# Altium footprint library ControlCircuit_PCB_Library_V1_0.PcbLib: 207 footprints (part 3 of 13)
Each footprint in its own frame and in the unit in brackets; x right, y up, seen from the top. Pads: shape width x height; smd on the part's side, far side on the other; paste and mask are expansions set on the pad; w line width, h text height; cw(c..) or ccw(c..) is an arc to the next point about the centre after c.
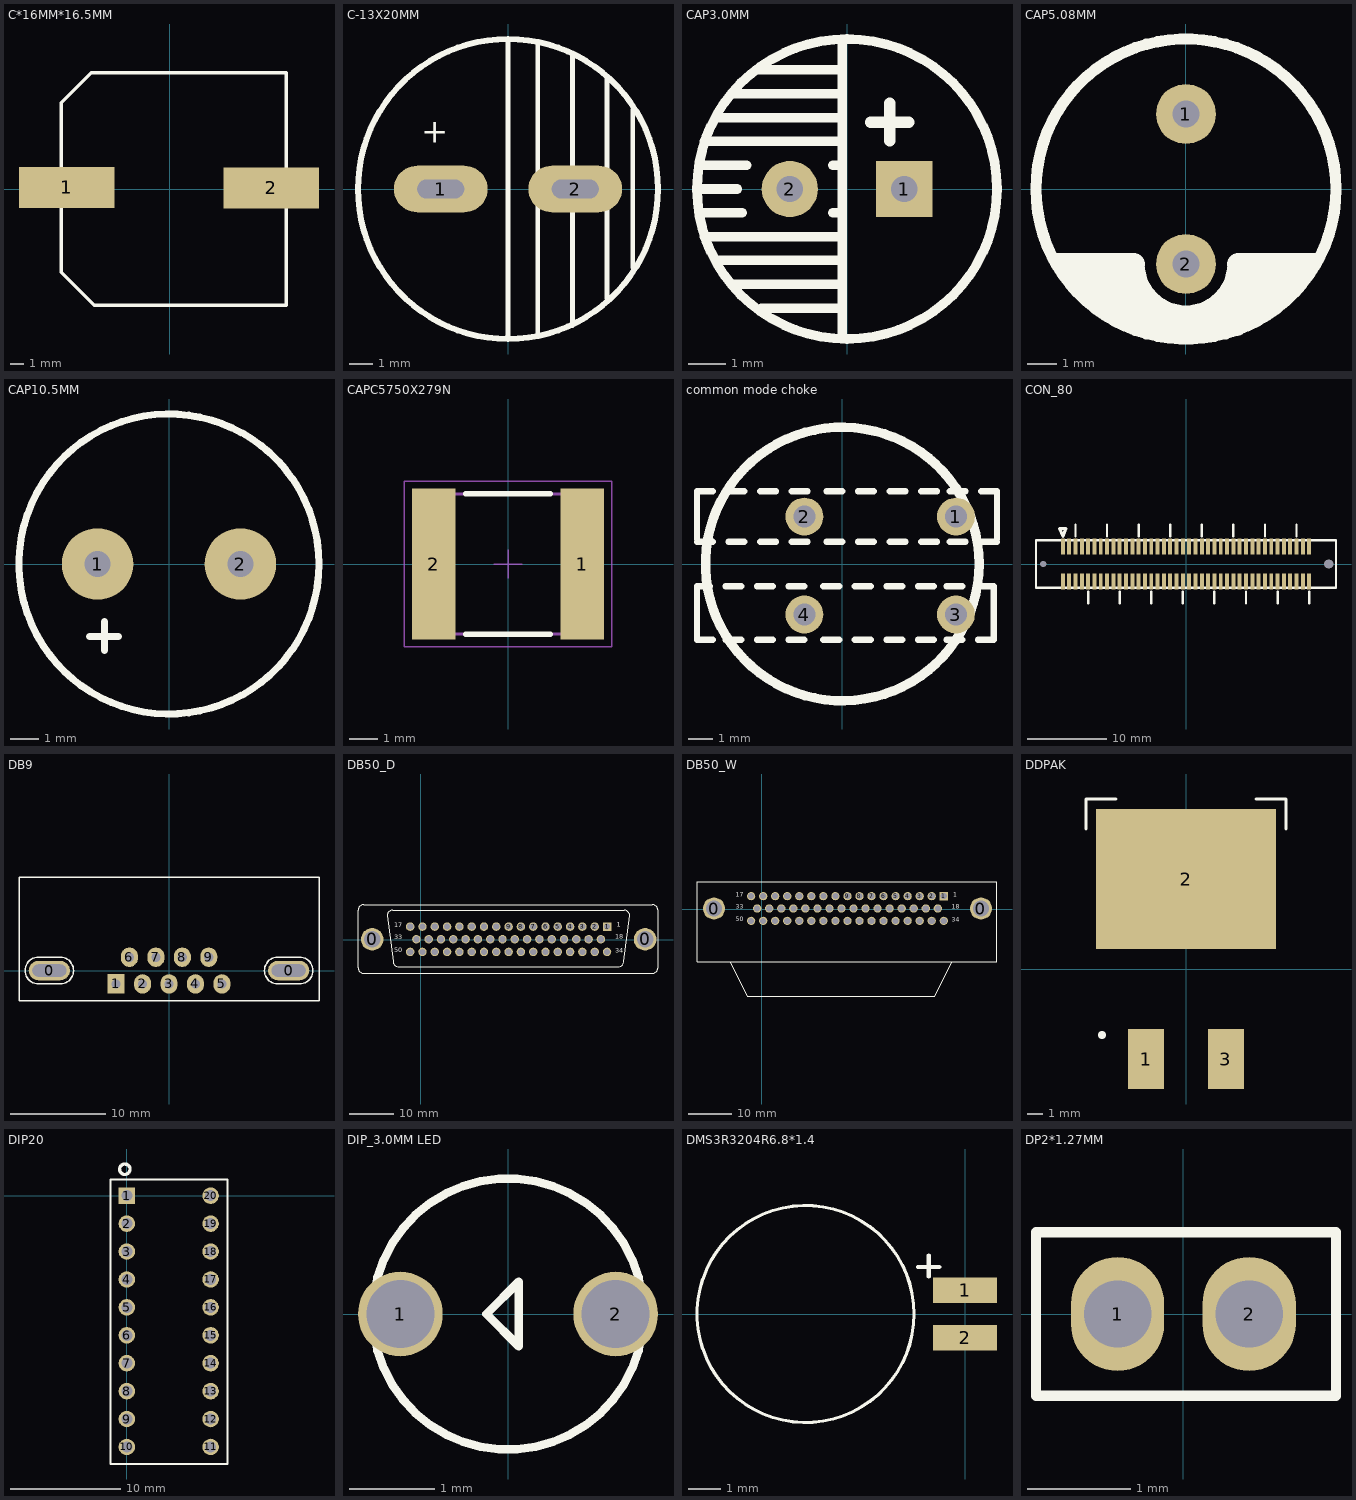
[diagram p2: the footprints below, top view; thin cyan lines are the x and y axes]

## C*16MM*16.5MM [mm]
height 10.2
pads (2):
  rect 7x3 smd: 1(-7.518,0.127) 2(7.417,0.102)
Top Overlay:
  lines w0.254: -7.925,-6.071 -7.925,6.325 -5.74,8.509 8.509,8.509 8.509,-8.484 -5.512,-8.484 -7.925,-6.071

## C-13X20MM [mm]
pads (2):
  oval 4x2 hole 0.8 slot 2 at 0 deg: 1(-2.87,0) 2(2.87,0)
Top Overlay:
  circle w0.254: c0,0 r6.4
  lines w0.2: -0.05,-6.325 0,-6.325 0,6.3 ; 1.275,-6.175 1.275,6.25 ; 2.75,-5.825 2.75,5.8 ; 4.225,4.725 4.225,-4.675 4.25,-4.7 ; 5.325,3.4 5.325,-3.35 5.375,-3.4
  text "+" at -3.7,1.975 h1.02
3D body: height 22, standoff 0, extent -6.65,-6.925 6.85,6.569

## CAP3.0MM [mm]
pads (2):
  rect 1.5x1.5 hole 0.7: 1(1.524,0)
  round 1.5 hole 0.7: 2(-1.524,0)
Top Overlay:
  circle w0.254: c0,0 r4
  lines w0.254: -3.937,-0.635 -2.794,-0.635 ; -3.937,0 -2.921,0 ; -3.937,0.635 -2.667,0.635 ; -3.81,-1.27 -0.127,-1.27 ; -3.81,1.27 -0.127,1.27 ; -3.429,-1.905 -0.127,-1.905 ; -3.429,1.905 -0.127,1.905 ; -3.048,-2.54 -0.127,-2.54 ; -3.048,2.54 -0.127,2.54 ; -2.413,3.175 -0.127,3.175 ; -2.286,-3.175 -0.127,-3.175 ; -0.381,-0.635 -0.127,-0.635 ; -0.381,0.635 -0.127,0.635 ; -0.127,-3.937 -0.127,3.937
  lines w0.305: 0.627,1.778 1.651,1.778 ; 1.143,1.286 1.143,2.286

## CAP5.08MM [mil]
pads (2):
  round 80 hole 36: 1(0,100) 2(0,-100)
Top Overlay:
  circle w15: c0,0 r200
  lines w20: -170,-95 -70,-95 ; -160,-110 -70,-110 ; -150,-125 -70,-125 ; -135,-140 -65,-140 ; -115,-155 -50,-155 ; -95,-170 -35,-170 ; -60,-185 70,-185 ; 35,-170 95,-170 ; 50,-155 115,-155 ; 65,-140 135,-140 ; 70,-125 150,-125 ; 70,-110 160,-110 ; 70,-95 170,-95
  lines w30: -70,-100 ccw(c0,-100) 70,-100

## CAP10.5MM [mm]
pads (2):
  round 2.5 hole 0.9: 1(-2.5,0) 2(2.5,0)
Top Overlay:
  circle w0.25: c0,0 r5.25
  lines w0.254: -2.778,-2.54 -1.778,-2.54 ; -2.254,-3.016 -2.254,-2.016

## CAPC5750X279N [mm]
pads (2):
  rect 1.55x5.4 smd: 1(2.65,0) 2(-2.65,0)
Top Overlay:
  lines w0.2: -1.5,-2.5 1.5,-2.5 ; -1.5,2.5 1.5,2.5
Mechanical 14:
  lines w0.1: -2.85,-2.5 -2.85,2.5 2.85,2.5 2.85,-2.5 -2.85,-2.5
Mechanical 15:
  lines w0.05: -0.5,0 0.5,0 ; 0,-0.5 0,0.5 ; -3.7,-2.95 -3.7,2.95 3.7,2.95 3.7,-2.95 -3.7,-2.95
3D body "CAPC5750X279N.stp": height 2.79, standoff 0, extent -3.05,-2.7 3.05,2.7
3D body "p540-155.stp": height 0.02, standoff 0, extent -3.417,-2.7 -1.867,2.7
3D body "p540-155.stp": height 0.02, standoff 0, extent 1.892,-2.7 3.442,2.7

## common mode choke [mil]
pads (4):
  round 60 hole 35: 1(180,75) 2(-60,75) 3(180,-80) 4(-60,-80)
Top Overlay:
  circle w15: c0,0 r216.54
  lines w10: -230,-70 -230,-45 ; -230,35 -205,35 ; -230,40 -230,115 ; -230,90 -230,115 ; -210,-35 -230,-35 -230,-120 -205,-120 ; -205,115 -230,115 ; -185,-120 -160,-120 ; -185,-35 -160,-35 ; -180,35 -155,35 ; -180,115 -155,115 ; -135,-120 -110,-120 ; -135,-35 -110,-35 ; -130,35 -105,35 ; -130,115 -105,115 ; -85,-120 -60,-120 ; -85,-35 -60,-35 ; -80,35 -55,35 ; -80,115 -55,115 ; -30,-120 -5,-120 ; -30,-35 -5,-35 ; -25,35 0,35 ; -25,115 0,115 ; 20,-120 45,-120 ; 20,-35 45,-35 ; 25,35 50,35 ; 25,115 50,115 ; 70,-120 95,-120 ; 70,-35 95,-35 ; 75,35 100,35 ; 75,115 100,115 ; 120,-120 145,-120 ; 120,-35 145,-35 ; 125,35 150,35 ; 125,115 150,115 ; 165,-120 190,-120 ; 165,-35 190,-35 ; 170,35 195,35 ; 170,115 195,115 ; 215,-120 240,-120 240,-35 215,-35 ; 220,35 245,35 ; 220,115 245,115 245,40 245,65 ; 240,-110 240,-85

## CON_80 [mm]
pads (82):
  rect 0.5x2 smd: 1(-15.6,2.2) 2(-15.6,-2.2) 3(-14.8,2.2) 4(-14.8,-2.2) 5(-14,2.2) 6(-14,-2.2) 7(-13.2,2.2) 8(-13.2,-2.2) 9(-12.4,2.2) 10(-12.4,-2.2) 11(-11.6,2.2) 12(-11.6,-2.2) 13(-10.8,2.2) 14(-10.8,-2.2) 15(-10,2.2) 16(-10,-2.2) 17(-9.2,2.2) 18(-9.2,-2.2) 19(-8.4,2.2) 20(-8.4,-2.2) 21(-7.6,2.2) 22(-7.6,-2.2) 23(-6.8,2.2) 24(-6.8,-2.2) 25(-6,2.2) 26(-6,-2.2) 27(-5.2,2.2) 28(-5.2,-2.2) 29(-4.4,2.2) 30(-4.4,-2.2) 31(-3.6,2.2) 32(-3.6,-2.2) 33(-2.8,2.2) 34(-2.8,-2.2) 35(-2,2.2) 36(-2,-2.2) 37(-1.2,2.2) 38(-1.2,-2.2) 39(-0.4,2.2) 40(-0.4,-2.2) 41(0.4,2.2) 42(0.4,-2.2) 43(1.2,2.2) 44(1.2,-2.2) 45(2,2.2) 46(2,-2.2) 47(2.8,2.2) 48(2.8,-2.2) 49(3.6,2.2) 50(3.6,-2.2) 51(4.4,2.2) 52(4.4,-2.2) 53(5.2,2.2) 54(5.2,-2.2) 55(6,2.2) 56(6,-2.2) 57(6.8,2.2) 58(6.8,-2.2) 59(7.6,2.2) 60(7.6,-2.2) 61(8.4,2.2) 62(8.4,-2.2) 63(9.2,2.2) 64(9.2,-2.2) 65(10,2.2) 66(10,-2.2) 67(10.8,2.2) 68(10.8,-2.2) 69(11.6,2.2) 70(11.6,-2.2) 71(12.4,2.2) 72(12.4,-2.2) 73(13.2,2.2) 74(13.2,-2.2) 75(14,2.2) 76(14,-2.2) 77(14.8,2.2) 78(14.8,-2.2) 79(15.6,2.2) 80(15.6,-2.2)
  round 1 hole 1.2 unplated: 81(18.1,0)
  round 0.5 hole 0.8 unplated: 82(-18.1,0)
Top Overlay:
  lines w0.3: -14,3.5 -14,5 ; -12.4,-5 -12.4,-3.5 ; -10,3.5 -10,5 ; -8.4,-5 -8.4,-3.5 ; -6,3.5 -6,5 ; -4.4,-5 -4.4,-3.5 ; -2,3.5 -2,5 ; -0.4,-5 -0.4,-3.5 ; 2,3.5 2,5 ; 3.6,-5 3.6,-3.5 ; 6,3.5 6,5 ; 7.6,-5 7.6,-3.5 ; 10,3.5 10,5 ; 11.6,-5 11.6,-3.5 ; 14,3.5 14,5 ; 15.6,-5 15.6,-3.5 ; -19,-3 19,-3 19,3 -19,3 -19,-3
  lines w0.4: -16,4.5 -15.6,3.5 -15.2,4.5 -16,4.5

## DB9 [mil]
pads (11):
  oval 170x80 hole 50 slot 140 at 0 deg: 0(-493,0) 0(493,0)
  rect 70x80 hole 38: 1(-218,-55)
  oval 70x80 hole 38: 2(-109,-55) 3(0,-55) 4(109,-55) 5(218,-55) 6(-163,55) 7(-54,55) 8(55,55) 9(164,55)
Top Overlay:
  lines w6: -618,-125 618,-125 618,385 -618,385 -618,-125 ; -538,-55 cw(c-538,0) -538,55 -448,55 cw(c-448,0) -448,-55 -538,-55 ; 448,-55 cw(c448,0) 448,55 538,55 cw(c538,0) 538,-55 448,-55

## DB50_D [mil]
pads (52):
  round 200 hole 145: 0(-431,6) 0(1986,6)
  rect 75x75 hole 55: 1(1649,118)
  round 75 hole 55: 2(1540,118) 3(1431,118) 4(1322,118) 5(1213,118) 6(1104,118) 7(995,118) 8(886,118) 9(777,118) 10(668,118) 11(559,118) 12(450,118) 13(341,118) 14(232,118) 15(123,118) 16(14,118) 17(-95,118) 18(1595,6) 19(1486,6) 20(1377,6) 21(1268,6) 22(1159,6) 23(1050,6) 24(941,6) 25(832,6) 26(723,6) 27(614,6) 28(505,6) 29(396,6) 30(287,6) 31(178,6) 32(69,6) 33(-40,6) 34(1649,-106) 35(1540,-106) 36(1431,-106) 37(1322,-106) 38(1213,-106) 39(1104,-106) 40(995,-106) 41(886,-106) 42(777,-106) 43(668,-106) 44(559,-106) 45(450,-106) 46(341,-106) 47(232,-106) 48(123,-106) 49(14,-106) 50(-95,-106)
Top Overlay:
  lines w10: -497,312 2050.48,312 cw(c2050.48,262) 2100.48,262 2100.48,-245 cw(c2050.48,-245) 2050.48,-295 -507,-295 cw(c-507,-245) -557,-245 -557,262 cw(c-507,262) -507,312 -470,312 ; -90,-237 1615,-237 1750,-237 ccw(c1750,-190) 1797,-190 1851,213 ccw(c1801,213) 1801,263 1658,263 ; -64,-237 -199,-237 cw(c-199,-190) -246,-190 -300,213 cw(c-250,213) -250,263 -107,263 1671,263
  text "50" at -235,-125 h70
  text "34" at 1723,-129 h70
  text "33" at -235,-11 h70
  text "18" at 1722,-8 h70
  text "17" at -236,97 h70
  text "1" at 1735,101 h70

## DB50_W [mil]
pads (52):
  round 200 hole 145: 0(-431,6) 0(1986,6)
  rect 75x75 hole 55: 1(1649,118)
  round 75 hole 55: 2(1540,118) 3(1431,118) 4(1322,118) 5(1213,118) 6(1104,118) 7(995,118) 8(886,118) 9(777,118) 10(668,118) 11(559,118) 12(450,118) 13(341,118) 14(232,118) 15(123,118) 16(14,118) 17(-95,118) 18(1595,6) 19(1486,6) 20(1377,6) 21(1268,6) 22(1159,6) 23(1050,6) 24(941,6) 25(832,6) 26(723,6) 27(614,6) 28(505,6) 29(396,6) 30(287,6) 31(178,6) 32(69,6) 33(-40,6) 34(1649,-106) 35(1540,-106) 36(1431,-106) 37(1322,-106) 38(1213,-106) 39(1104,-106) 40(995,-106) 41(886,-106) 42(777,-106) 43(668,-106) 44(559,-106) 45(450,-106) 46(341,-106) 47(232,-106) 48(123,-106) 49(14,-106) 50(-95,-106)
Top Overlay:
  lines w10: -287,-478 -129,-787.13 1568,-787.13 1726,-478 ; -585,-478 2131,-478 2131,247 -585,247 -585,-478
  text "50" at -235,-125 h70
  text "34" at 1723,-129 h70
  text "33" at -235,-11 h70
  text "18" at 1722,-8 h70
  text "17" at -236,97 h70
  text "1" at 1735,101 h70

## DDPAK [mil]
pads (3):
  rect 90x150 smd: 1(-100,-225) 3(100,-225)
  rect 450x350 smd: 2(0,225)
Top Overlay:
  circle w9.84: c-209.92,-165 r4.92
  lines w8: -250,350 -250,425 -175,425 ; 175,425 250,425 250,350

## DIP20 [mm]
pads (20):
  rect 1.5x1.5 hole 1: 1(0,0)
  round 1.5 hole 1: 2(0,-2.54) 3(0,-5.08) 4(0,-7.62) 5(0,-10.16) 6(0,-12.7) 7(0,-15.24) 8(0,-17.78) 9(0,-20.32) 10(0,-22.86) 11(7.62,-22.86) 12(7.62,-20.32) 13(7.62,-17.78) 14(7.62,-15.24) 15(7.62,-12.7) 16(7.62,-10.16) 17(7.62,-7.62) 18(7.62,-5.08) 19(7.62,-2.54) 20(7.62,0)
Top Overlay:
  lines w0.2: -1.499,1.422 -1.499,-24.384 -1.473,-24.409 9.169,-24.409 ; -1.499,1.473 9.169,1.473 9.169,-24.384
  lines w0.3: 0.229,2.642 ccw(c-0.186,2.41) 0.255,2.586

## DIP_3.0MM LED [mm]
pads (2):
  round 1 hole 0.8: 1(-1.27,0) 2(1.27,0)
Top Overlay:
  circle w0.1: c0,0 r1.6
  lines w0.1: 0.127,-0.381 -0.254,0 0.127,0.381 ; 0.127,-0.381 0.127,0.381 ; 0.127,-0.381 0.127,0.381

## DMS3R3204R6.8*1.4 [mm] "法拉电容"
height 1.4
pads (2):
  rect 2x0.8 smd: 1(0,0.75) 2(0,-0.75)
Top Overlay:
  circle w0.1: c-5,0 r3.4
  lines w0.127: -1.469,1.473 -0.809,1.473 ; -1.139,1.168 -1.139,1.829

## DP2*1.27MM [mm]
pads (2):
  oval 0.9x1.1 hole 0.65: 1(-0.635,0) 2(0.635,0)
Top Overlay:
  lines w0.1: -1.422,0.762 -1.422,-0.787 1.473,-0.787 1.473,0.787 -1.422,0.787